# Altium footprint library PcbLib1.PcbLib: 11 footprints
Each footprint in its own frame and in the unit in brackets; x right, y up, seen from the top. Pads: shape width x height; smd on the part's side, far side on the other; paste and mask are expansions set on the pad; w line width, h text height; cw(c..) or ccw(c..) is an arc to the next point about the centre after c.
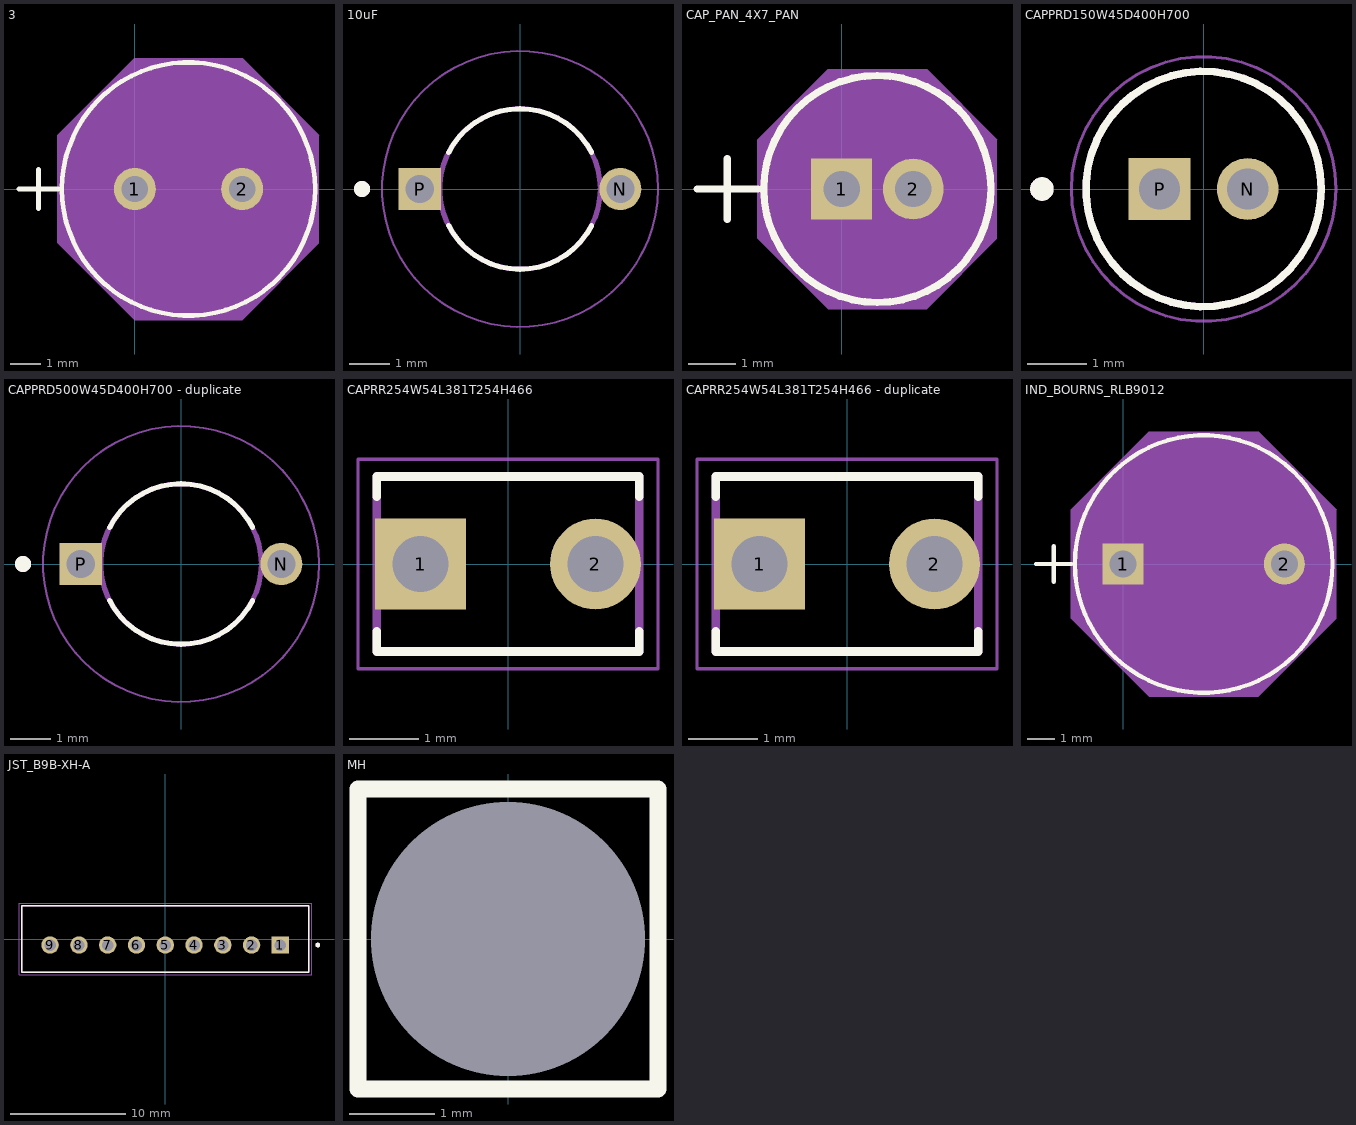
[diagram p0: the footprints below, top view; thin cyan lines are the x and y axes]

## 3 [mil]
pads (2):
  round 54 / inner round 60 / far side round 54 hole 34 paste-99999 mask+0: 1(0,0) 2(137.8,0)
Top Overlay:
  circle w6: c68.9,0 r162.5
  lines w6: -148.6,0 -98.6,0 ; -123.6,-25 -123.6,25
Mechanical 13:
  circle w0: c68.9,0 r157.5
  lines w1: -148.6,0 -98.6,0 ; -123.6,-25 -123.6,25
Mechanical 15:
  region: -98.6,68.97 -0.07,167.5 137.87,167.5 236.4,68.97 236.4,-68.97 137.87,-167.5 -0.07,-167.5 -98.6,-68.97
  lines w1: -98.6,-68.97 -98.6,68.97 -0.07,167.5 137.87,167.5 236.4,68.97 236.4,-68.97 137.87,-167.5 -0.07,-167.5 -98.6,-68.97
3D body "CAP_UBT_8X11P5_NCH.step": height 512.6, standoff -172.01, extent -88.58,-157.5 227.46,157.5

## 10uF [mm]
pads (2):
  round 1.05 hole 0.7: N(2.5,0)
  rect 1.05x1.05 hole 0.7: P(-2.5,0)
Top Overlay:
  circle w0.2: c-3.938,0 r0.1
  lines w0.127: -1.782,-0.908 ccw(c0,0) 1.782,-0.908 ; -1.782,0.908 cw(c0,0) 1.782,0.908
Mechanical 13:
  circle w0.2: c-3.938,0 r0.1
  circle w0.127: c0,0 r2
Mechanical 15:
  circle w0.05: c0,0 r3.438
3D body "step_temp.STEP": height 7, standoff -17, extent -2.725,-1.999 2.725,1.999

## CAP_PAN_4X7_PAN [mil]
pads (2):
  rect 50x50 / inner round 60 / far side rect 50x50 hole 30 paste-99999 mask+0: 1(0,0)
  round 50 / inner round 60 / far side round 50 hole 30 paste-99999 mask+0: 2(59,0)
Top Overlay:
  circle w6: c29.5,0 r93.5
  lines w6: -119,0 -69,0 ; -94,-25 -94,25
Mechanical 13:
  circle w0: c29.5,0 r88.5
  lines w1: -119,0 -69,0 ; -94,-25 -94,25
Mechanical 15:
  region: -69,40.56 -11.06,98.5 70.06,98.5 128,40.56 128,-40.56 70.06,-98.5 -11.06,-98.5 -69,-40.56
  lines w1: -69,-40.56 -11.06,-98.5 70.06,-98.5 128,-40.56 128,40.56 70.06,98.5 -11.06,98.5 -69,40.56 -69,-40.56
3D body "CAP_PAN_4X7_PAN.step": height 315.63, standoff -160, extent -59.02,-88.02 119.23,88.02

## CAPPRD150W45D400H700 [mm]
pads (2):
  round 1.05 hole 0.7: N(0.75,0)
  rect 1.05x1.05 / inner round 1.05 / far side rect 1.05x1.05 hole 0.7: P(-0.75,0)
Top Overlay:
  circle w0.2: c-2.75,0 r0.1
  circle w0.127: c0,0 r2
Mechanical 13:
  circle w0.2: c-2.75,0 r0.1
  circle w0.127: c0,0 r2
Mechanical 15:
  circle w0.05: c0,0 r2.25
3D body "step_temp.STEP": height 7, standoff -17, extent -2,-1.999 2,1.999

## CAPPRD500W45D400H700 - duplicate [mm]
pads (2):
  round 1.05 hole 0.7: N(2.5,0)
  rect 1.05x1.05 hole 0.7: P(-2.5,0)
Top Overlay:
  circle w0.2: c-3.938,0 r0.1
  lines w0.127: -1.782,-0.908 ccw(c0,0) 1.782,-0.908 ; -1.782,0.908 cw(c0,0) 1.782,0.908
Mechanical 13:
  circle w0.127: c0,0 r2
  circle w0.2: c-3.938,0 r0.1
Mechanical 15:
  circle w0.05: c0,0 r3.438
3D body "step_temp.STEP": height 7, standoff -17, extent -2.725,-1.999 2.725,1.999

## CAPRR254W54L381T254H466 [mm]
height 4.66
pads (2):
  rect 1.318x1.318 / inner round 1.318 / far side rect 1.318x1.318 hole 0.81: 1(-1.27,0)
  round 1.318 hole 0.81: 2(1.27,0)
Top Overlay:
  lines w0.127: -1.905,-0.979 -1.905,-1.27 1.905,-1.27 1.905,-0.979 ; -1.905,0.979 -1.905,1.27 1.905,1.27 1.905,0.979
Mechanical 13:
  lines w0.127: -1.905,-1.27 -1.905,1.27 1.905,1.27 1.905,-1.27 -1.905,-1.27
Mechanical 15:
  lines w0.05: -2.179,-1.52 -2.179,1.52 2.179,1.52 2.179,-1.52 -2.179,-1.52
3D body "step_temp.STEP": height 4.66, standoff -7, extent -1.905,-1.27 1.905,1.27

## CAPRR254W54L381T254H466 - duplicate [mm]
height 4.66
pads (2):
  rect 1.318x1.318 / inner round 1.318 / far side rect 1.318x1.318 hole 0.81: 1(-1.27,0)
  round 1.318 hole 0.81: 2(1.27,0)
Top Overlay:
  lines w0.127: -1.905,-0.979 -1.905,-1.27 1.905,-1.27 1.905,-0.979 ; -1.905,0.979 -1.905,1.27 1.905,1.27 1.905,0.979
Mechanical 13:
  lines w0.127: -1.905,-1.27 -1.905,1.27 1.905,1.27 1.905,-1.27 -1.905,-1.27
Mechanical 15:
  lines w0.05: -2.179,-1.52 -2.179,1.52 2.179,1.52 2.179,-1.52 -2.179,-1.52
3D body "step_temp.STEP": height 4.66, standoff -7, extent -1.905,-1.27 1.905,1.27

## IND_BOURNS_RLB9012 [mil]
pads (2):
  rect 58x58 / inner round 60 / far side rect 58x58 hole 38 paste-99999 mask+0: 1(0,0)
  round 58 / inner round 60 / far side round 58 hole 38 paste-99999 mask+0: 2(228,0)
Top Overlay:
  circle w6: c114,0 r182
  lines w6: -123,0 -73,0 ; -98,-25 -98,25
Mechanical 13:
  circle w0: c114,0 r177
  lines w1: -123,0 -73,0 ; -98,-25 -98,25
Mechanical 15:
  region: -73,77 37,187 191,187 301,77 301,-77 191,-187 37,-187 -73,-77
  lines w1: -73,-77 -73,77 37,187 191,187 301,77 301,-77 191,-187 37,-187 -73,-77
3D body "IND_BOURNS_RLB9012.step": height 480.63, standoff -184.02, extent -63.25,-176.88 290.54,176.88

## JST_B9B-XH-A [mm]
height 7
pads (9):
  rect 1.508x1.508 / inner round 1.508 / far side rect 1.508x1.508 hole 1: 1(10,-0.525)
  round 1.508 hole 1: 2(7.5,-0.525) 3(5,-0.525) 4(2.5,-0.525) 5(0,-0.525) 6(-2.5,-0.525) 7(-5,-0.525) 8(-7.5,-0.525) 9(-10,-0.525)
Top Overlay:
  circle w0.2: c13.25,-0.525 r0.1
  lines w0.127: -12.45,-2.875 12.45,-2.875 12.45,2.875 -12.45,2.875 -12.45,-2.875
Mechanical 13:
  circle w0.2: c13.25,-0.525 r0.1
  lines w0.127: -12.45,-2.875 12.45,-2.875 12.45,2.875 -12.45,2.875 -12.45,-2.875
Mechanical 15:
  lines w0.05: -12.7,-3.125 12.7,-3.125 12.7,3.125 -12.7,3.125 -12.7,-3.125

## MH [mm]
pads (1):
  round 1 hole 3.2: ""(0,0)
Top Overlay:
  lines w0.2: -1.75,-0.175 -1.75,1.75 1.75,1.75 1.75,-1.75 -1.75,-1.75 -1.75,0.05

## PCBComponent_1 [mm]